# EAGLE library part LTR-559ALS-01 (library pimoroni-ics)
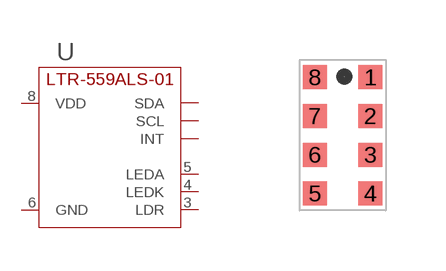
[diagram p73: symbol with the pads of LTR-559ALS-01; footprint LTR-559ALS-01]

Designator prefix U

## LTR-559ALS-01  [LTR-559ALS-01]
1  SDA
2  INT
3  LDR
4  LEDK
5  LEDA
6  GND
7  SCL
8  VDD

## Footprint LTR-559ALS-01 (pad centres in mm)
smd 0.6 x 0.6: 1 0.695,1.455; 2 0.695,0.485; 3 0.695,-0.485; 4 0.695,-1.455; 5 -0.695,-1.455; 6 -0.695,-0.485; 7 -0.695,0.485; 8 -0.695,1.455